# Altium footprint library Demo.PcbLib: 2 footprints
Each footprint in its own frame and in the unit in brackets; x right, y up, seen from the top. Pads: shape width x height; smd on the part's side, far side on the other; paste and mask are expansions set on the pad; w line width, h text height; cw(c..) or ccw(c..) is an arc to the next point about the centre after c.
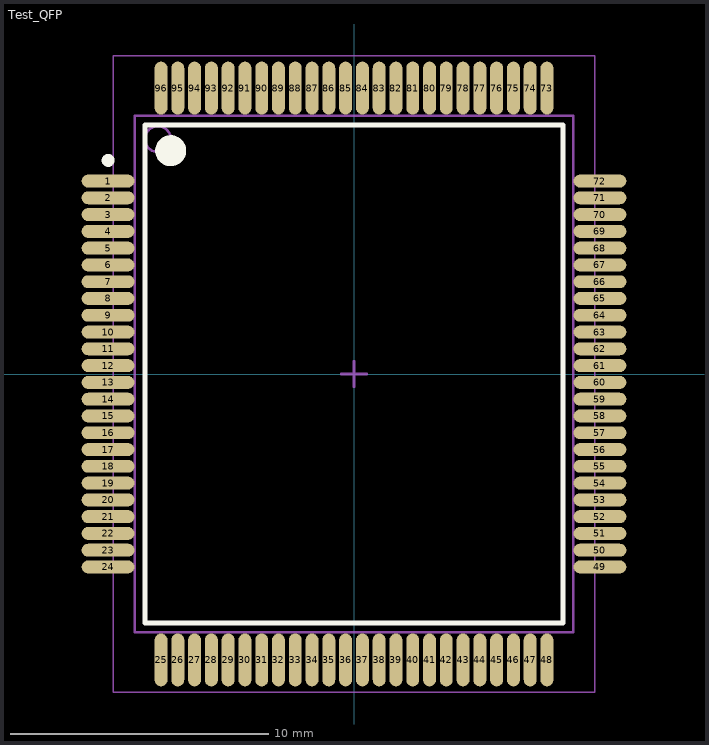
[diagram p0: the footprints below, top view; thin cyan lines are the x and y axes]

## 0603R [mm]
height 0.5

## Test_QFP [mm] "QFP, 96-Leads, Body 17.00x20.00mm, Pitch 0.65mm, IPC Medium Density"
height 2.45
pads (96):
  oval 2.05x0.5 smd: 1(-9.525,7.475) 2(-9.525,6.825) 3(-9.525,6.175) 4(-9.525,5.525) 5(-9.525,4.875) 6(-9.525,4.225) 7(-9.525,3.575) 8(-9.525,2.925) 9(-9.525,2.275) 10(-9.525,1.625) 11(-9.525,0.975) 12(-9.525,0.325) 13(-9.525,-0.325) 14(-9.525,-0.975) 15(-9.525,-1.625) 16(-9.525,-2.275) 17(-9.525,-2.925) 18(-9.525,-3.575) 19(-9.525,-4.225) 20(-9.525,-4.875) 21(-9.525,-5.525) 22(-9.525,-6.175) 23(-9.525,-6.825) 24(-9.525,-7.475) 49(9.525,-7.475) 50(9.525,-6.825) 51(9.525,-6.175) 52(9.525,-5.525) 53(9.525,-4.875) 54(9.525,-4.225) 55(9.525,-3.575) 56(9.525,-2.925) 57(9.525,-2.275) 58(9.525,-1.625) 59(9.525,-0.975) 60(9.525,-0.325) 61(9.525,0.325) 62(9.525,0.975) 63(9.525,1.625) 64(9.525,2.275) 65(9.525,2.925) 66(9.525,3.575) 67(9.525,4.225) 68(9.525,4.875) 69(9.525,5.525) 70(9.525,6.175) 71(9.525,6.825) 72(9.525,7.475)
  oval 0.5x2.05 smd: 25(-7.475,-11.075) 26(-6.825,-11.075) 27(-6.175,-11.075) 28(-5.525,-11.075) 29(-4.875,-11.075) 30(-4.225,-11.075) 31(-3.575,-11.075) 32(-2.925,-11.075) 33(-2.275,-11.075) 34(-1.625,-11.075) 35(-0.975,-11.075) 36(-0.325,-11.075) 37(0.325,-11.075) 38(0.975,-11.075) 39(1.625,-11.075) 40(2.275,-11.075) 41(2.925,-11.075) 42(3.575,-11.075) 43(4.225,-11.075) 44(4.875,-11.075) 45(5.525,-11.075) 46(6.175,-11.075) 47(6.825,-11.075) 48(7.475,-11.075) 73(7.475,11.075) 74(6.825,11.075) 75(6.175,11.075) 76(5.525,11.075) 77(4.875,11.075) 78(4.225,11.075) 79(3.575,11.075) 80(2.925,11.075) 81(2.275,11.075) 82(1.625,11.075) 83(0.975,11.075) 84(0.325,11.075) 85(-0.325,11.075) 86(-0.975,11.075) 87(-1.625,11.075) 88(-2.275,11.075) 89(-2.925,11.075) 90(-3.575,11.075) 91(-4.225,11.075) 92(-4.875,11.075) 93(-5.525,11.075) 94(-6.175,11.075) 95(-6.825,11.075) 96(-7.475,11.075)
Top Overlay:
  circle w0.6: c-7.1,8.65 r0.3
  circle w0.25: c-9.525,8.275 r0.125
  lines w0.2: -8.1,-9.65 8.1,-9.65 8.1,9.65 -8.1,9.65 -8.1,-9.65
Mechanical 13:
  circle w0.1: c-7.6,9.1 r0.5
  lines w0.1: -8.5,-10 8.5,-10 8.5,10 -8.5,10 -8.5,-10
Mechanical 15:
  lines w0.05: -9.325,-12.325 9.325,-12.325 9.325,12.325 -9.325,12.325 -9.325,-12.325
  lines w0.1: -0.5,0 0.5,0 ; 0,-0.5 0,0.5
3D body "Test_QFP.step": height 2.7, standoff 0, extent -9.125,-11.6 9.125,11.6